# Altium integrated library Freescale Semiconductor Kinetis ARM.IntLib: 48 symbols (part 6 of 6)
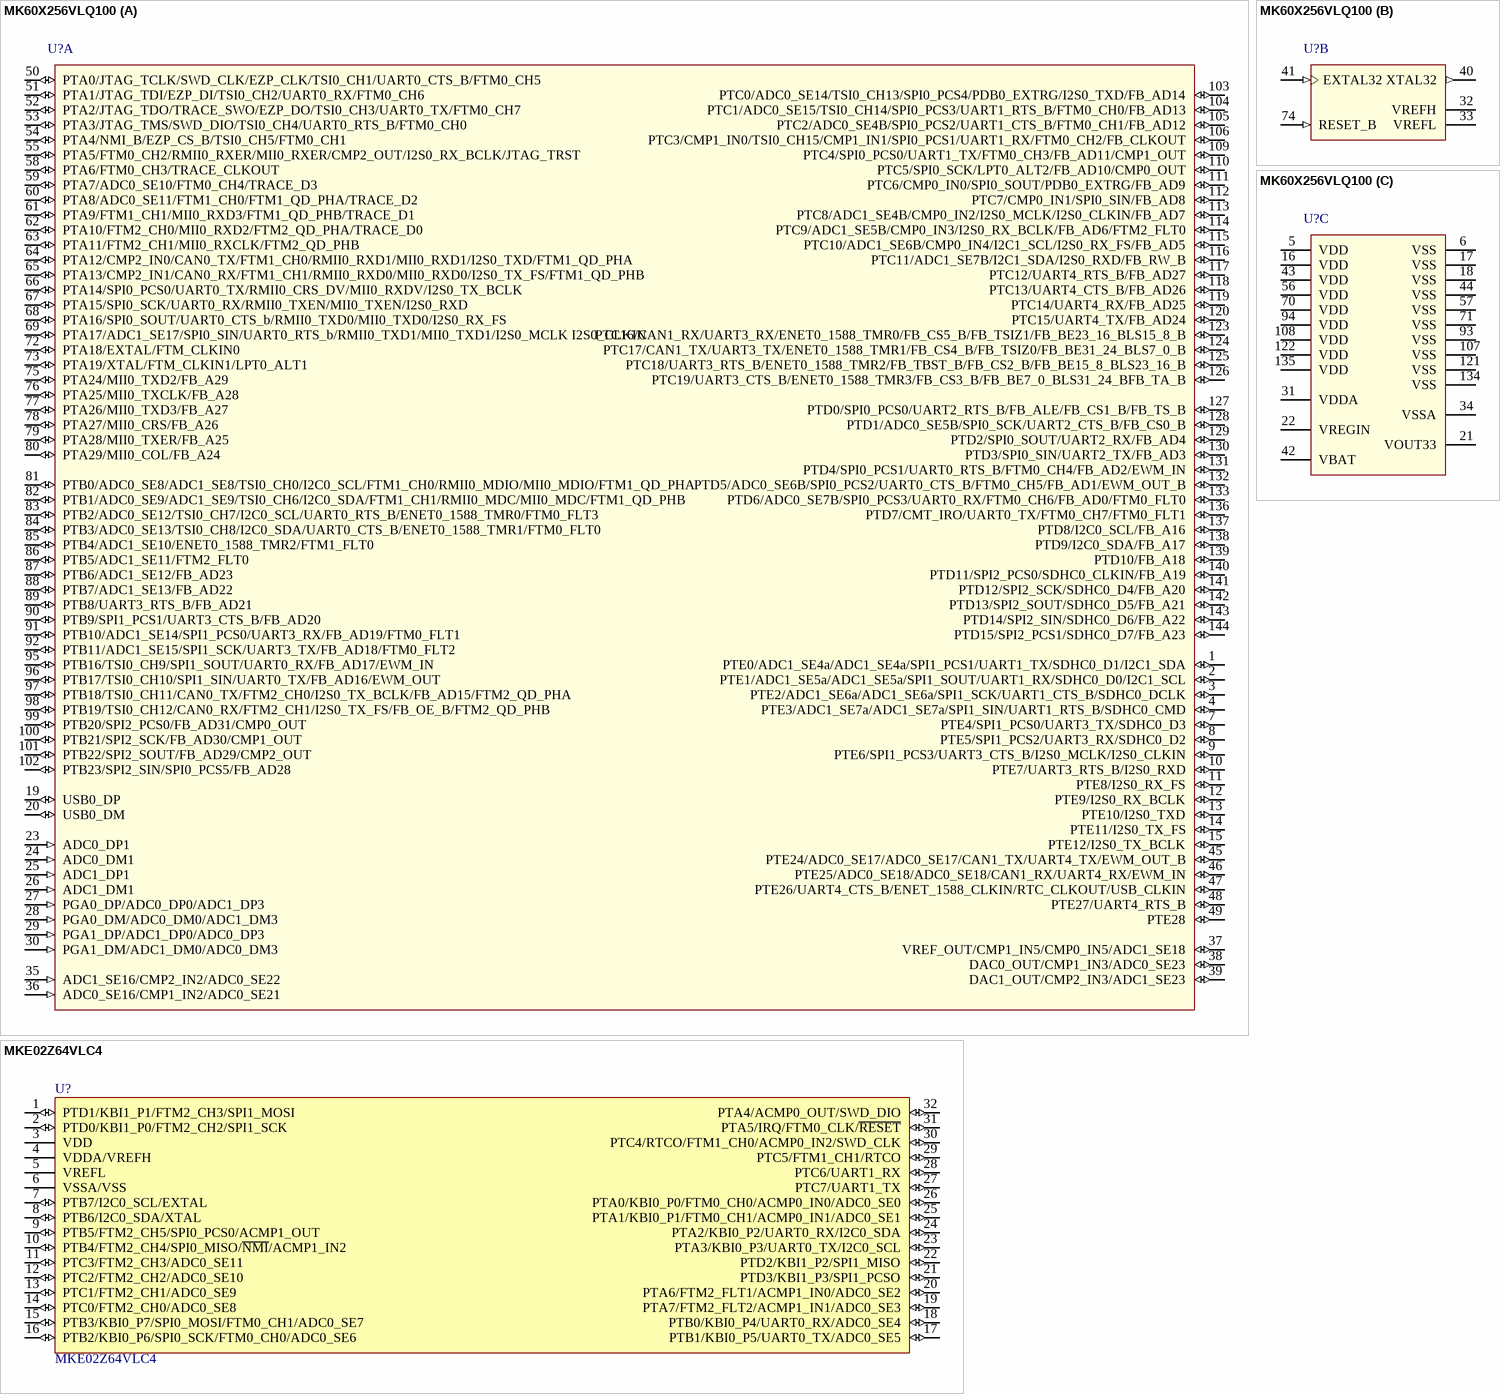
[diagram p40: symbols MK60X256VLQ100 to MKE02Z64VLC4]

## MK60X256VLQ100
designator U?
Kinetis 32-Bit ARM Cortex-M4 Core, K60, 256KB Program Flash Memory, 128KB RAM, 4KB FlexRAM, 144-Pin LQFP; DatasheetVersion: rev4, Mar-2011; PackageVersion: revG, Nov-2009; PackageReference: 918-03; PackageDescription: 144-Pin Thin Quad Flat Pack, 20 x 20 mm Body, 0.5 mm Pitch; ComponentLink1Description: Manufacturer URL; ComponentLink1URL: http://www.freescale.com/
footprint 918-03_N (Thin QFP, 144-Leads, Body 20x20mm, Pitch 0.5mm, IPC Medium Density)
footprint 918-03_L (Thin QFP, 144-Leads, Body 20x20mm, Pitch 0.5mm, IPC High Density)
footprint 918-03_M (Thin QFP, 144-Leads, Body 20x20mm, Pitch 0.5mm, IPC Low Density)
part A pins: 1 PTE0/ADC1_SE4a/ADC1_SE4a/SPI1_PCS1/UART1_TX/SDHC0_D1/I2C1_SDA (io), 2 PTE1/ADC1_SE5a/ADC1_SE5a/SPI1_SOUT/UART1_RX/SDHC0_D0/I2C1_SCL (io), 3 PTE2/ADC1_SE6a/ADC1_SE6a/SPI1_SCK/UART1_CTS_B/SDHC0_DCLK (io), 4 PTE3/ADC1_SE7a/ADC1_SE7a/SPI1_SIN/UART1_RTS_B/SDHC0_CMD (io), 7 PTE4/SPI1_PCS0/UART3_TX/SDHC0_D3 (io), 8 PTE5/SPI1_PCS2/UART3_RX/SDHC0_D2 (io), 9 PTE6/SPI1_PCS3/UART3_CTS_B/I2S0_MCLK/I2S0_CLKIN (io), 10 PTE7/UART3_RTS_B/I2S0_RXD (io), 11 PTE8/I2S0_RX_FS (io), 12 PTE9/I2S0_RX_BCLK (io), 13 PTE10/I2S0_TXD (io), 14 PTE11/I2S0_TX_FS (io), 15 PTE12/I2S0_TX_BCLK (io), 19 USB0_DP (io), 20 USB0_DM (io), 23 ADC0_DP1 (in), 24 ADC0_DM1 (in), 25 ADC1_DP1 (in), 26 ADC1_DM1 (in), 27 PGA0_DP/ADC0_DP0/ADC1_DP3 (in), 28 PGA0_DM/ADC0_DM0/ADC1_DM3 (in), 29 PGA1_DP/ADC1_DP0/ADC0_DP3 (in), 30 PGA1_DM/ADC1_DM0/ADC0_DM3 (in), 35 ADC1_SE16/CMP2_IN2/ADC0_SE22 (in), 36 ADC0_SE16/CMP1_IN2/ADC0_SE21 (in), 37 VREF_OUT/CMP1_IN5/CMP0_IN5/ADC1_SE18 (io), 38 DAC0_OUT/CMP1_IN3/ADC0_SE23 (io), 39 DAC1_OUT/CMP2_IN3/ADC1_SE23 (io), 45 PTE24/ADC0_SE17/ADC0_SE17/CAN1_TX/UART4_TX/EWM_OUT_B (io), 46 PTE25/ADC0_SE18/ADC0_SE18/CAN1_RX/UART4_RX/EWM_IN (io), 47 PTE26/UART4_CTS_B/ENET_1588_CLKIN/RTC_CLKOUT/USB_CLKIN (io), 48 PTE27/UART4_RTS_B (io), 49 PTE28 (io), 50 PTA0/JTAG_TCLK/SWD_CLK/EZP_CLK/TSI0_CH1/UART0_CTS_B/FTM0_CH5 (io), 51 PTA1/JTAG_TDI/EZP_DI/TSI0_CH2/UART0_RX/FTM0_CH6 (io), 52 PTA2/JTAG_TDO/TRACE_SWO/EZP_DO/TSI0_CH3/UART0_TX/FTM0_CH7 (io), 53 PTA3/JTAG_TMS/SWD_DIO/TSI0_CH4/UART0_RTS_B/FTM0_CH0 (io), 54 PTA4/NMI_B/EZP_CS_B/TSI0_CH5/FTM0_CH1 (io), 55 PTA5/FTM0_CH2/RMII0_RXER/MII0_RXER/CMP2_OUT/I2S0_RX_BCLK/JTAG_TRST (io), 58 PTA6/FTM0_CH3/TRACE_CLKOUT (io), 59 PTA7/ADC0_SE10/FTM0_CH4/TRACE_D3 (io), 60 PTA8/ADC0_SE11/FTM1_CH0/FTM1_QD_PHA/TRACE_D2 (io), 61 PTA9/FTM1_CH1/MII0_RXD3/FTM1_QD_PHB/TRACE_D1 (io), 62 PTA10/FTM2_CH0/MII0_RXD2/FTM2_QD_PHA/TRACE_D0 (io), 63 PTA11/FTM2_CH1/MII0_RXCLK/FTM2_QD_PHB (io), 64 PTA12/CMP2_IN0/CAN0_TX/FTM1_CH0/RMII0_RXD1/MII0_RXD1/I2S0_TXD/FTM1_QD_PHA (io), 65 PTA13/CMP2_IN1/CAN0_RX/FTM1_CH1/RMII0_RXD0/MII0_RXD0/I2S0_TX_FS/FTM1_QD_PHB (io), 66 PTA14/SPI0_PCS0/UART0_TX/RMII0_CRS_DV/MII0_RXDV/I2S0_TX_BCLK (io), 67 PTA15/SPI0_SCK/UART0_RX/RMII0_TXEN/MII0_TXEN/I2S0_RXD (io), 68 PTA16/SPI0_SOUT/UART0_CTS_b/RMII0_TXD0/MII0_TXD0/I2S0_RX_FS (io), 69 PTA17/ADC1_SE17/SPI0_SIN/UART0_RTS_b/RMII0_TXD1/MII0_TXD1/I2S0_MCLK I2S0_CLKIN (io), 72 PTA18/EXTAL/FTM_CLKIN0 (io), 73 PTA19/XTAL/FTM_CLKIN1/LPT0_ALT1 (io), 75 PTA24/MII0_TXD2/FB_A29 (io), 76 PTA25/MII0_TXCLK/FB_A28 (io), 77 PTA26/MII0_TXD3/FB_A27 (io), 78 PTA27/MII0_CRS/FB_A26 (io), 79 PTA28/MII0_TXER/FB_A25 (io), 80 PTA29/MII0_COL/FB_A24 (io), 81 PTB0/ADC0_SE8/ADC1_SE8/TSI0_CH0/I2C0_SCL/FTM1_CH0/RMII0_MDIO/MII0_MDIO/FTM1_QD_PHA (io), 82 PTB1/ADC0_SE9/ADC1_SE9/TSI0_CH6/I2C0_SDA/FTM1_CH1/RMII0_MDC/MII0_MDC/FTM1_QD_PHB (io), 83 PTB2/ADC0_SE12/TSI0_CH7/I2C0_SCL/UART0_RTS_B/ENET0_1588_TMR0/FTM0_FLT3 (io), 84 PTB3/ADC0_SE13/TSI0_CH8/I2C0_SDA/UART0_CTS_B/ENET0_1588_TMR1/FTM0_FLT0 (io), 85 PTB4/ADC1_SE10/ENET0_1588_TMR2/FTM1_FLT0 (io), 86 PTB5/ADC1_SE11/FTM2_FLT0 (io), 87 PTB6/ADC1_SE12/FB_AD23 (io), 88 PTB7/ADC1_SE13/FB_AD22 (io), 89 PTB8/UART3_RTS_B/FB_AD21 (io), 90 PTB9/SPI1_PCS1/UART3_CTS_B/FB_AD20 (io), 91 PTB10/ADC1_SE14/SPI1_PCS0/UART3_RX/FB_AD19/FTM0_FLT1 (io), 92 PTB11/ADC1_SE15/SPI1_SCK/UART3_TX/FB_AD18/FTM0_FLT2 (io), 95 PTB16/TSI0_CH9/SPI1_SOUT/UART0_RX/FB_AD17/EWM_IN (io), 96 PTB17/TSI0_CH10/SPI1_SIN/UART0_TX/FB_AD16/EWM_OUT (io), 97 PTB18/TSI0_CH11/CAN0_TX/FTM2_CH0/I2S0_TX_BCLK/FB_AD15/FTM2_QD_PHA (io), 98 PTB19/TSI0_CH12/CAN0_RX/FTM2_CH1/I2S0_TX_FS/FB_OE_B/FTM2_QD_PHB (io), 99 PTB20/SPI2_PCS0/FB_AD31/CMP0_OUT (io), 100 PTB21/SPI2_SCK/FB_AD30/CMP1_OUT (io), 101 PTB22/SPI2_SOUT/FB_AD29/CMP2_OUT (io), 102 PTB23/SPI2_SIN/SPI0_PCS5/FB_AD28 (io), 103 PTC0/ADC0_SE14/TSI0_CH13/SPI0_PCS4/PDB0_EXTRG/I2S0_TXD/FB_AD14 (io), 104 PTC1/ADC0_SE15/TSI0_CH14/SPI0_PCS3/UART1_RTS_B/FTM0_CH0/FB_AD13 (io), 105 PTC2/ADC0_SE4B/SPI0_PCS2/UART1_CTS_B/FTM0_CH1/FB_AD12 (io), 106 PTC3/CMP1_IN0/TSI0_CH15/CMP1_IN1/SPI0_PCS1/UART1_RX/FTM0_CH2/FB_CLKOUT (io), 109 PTC4/SPI0_PCS0/UART1_TX/FTM0_CH3/FB_AD11/CMP1_OUT (io), 110 PTC5/SPI0_SCK/LPT0_ALT2/FB_AD10/CMP0_OUT (io), 111 PTC6/CMP0_IN0/SPI0_SOUT/PDB0_EXTRG/FB_AD9 (io), 112 PTC7/CMP0_IN1/SPI0_SIN/FB_AD8 (io), 113 PTC8/ADC1_SE4B/CMP0_IN2/I2S0_MCLK/I2S0_CLKIN/FB_AD7 (io), 114 PTC9/ADC1_SE5B/CMP0_IN3/I2S0_RX_BCLK/FB_AD6/FTM2_FLT0 (io), 115 PTC10/ADC1_SE6B/CMP0_IN4/I2C1_SCL/I2S0_RX_FS/FB_AD5 (io), 116 PTC11/ADC1_SE7B/I2C1_SDA/I2S0_RXD/FB_RW_B (io), 117 PTC12/UART4_RTS_B/FB_AD27 (io), 118 PTC13/UART4_CTS_B/FB_AD26 (io), 119 PTC14/UART4_RX/FB_AD25 (io), 120 PTC15/UART4_TX/FB_AD24 (io), 123 PTC16/CAN1_RX/UART3_RX/ENET0_1588_TMR0/FB_CS5_B/FB_TSIZ1/FB_BE23_16_BLS15_8_B (io), 124 PTC17/CAN1_TX/UART3_TX/ENET0_1588_TMR1/FB_CS4_B/FB_TSIZ0/FB_BE31_24_BLS7_0_B (io), 125 PTC18/UART3_RTS_B/ENET0_1588_TMR2/FB_TBST_B/FB_CS2_B/FB_BE15_8_BLS23_16_B (io), 126 PTC19/UART3_CTS_B/ENET0_1588_TMR3/FB_CS3_B/FB_BE7_0_BLS31_24_BFB_TA_B (io), 127 PTD0/SPI0_PCS0/UART2_RTS_B/FB_ALE/FB_CS1_B/FB_TS_B (io), 128 PTD1/ADC0_SE5B/SPI0_SCK/UART2_CTS_B/FB_CS0_B (io), 129 PTD2/SPI0_SOUT/UART2_RX/FB_AD4 (io), 130 PTD3/SPI0_SIN/UART2_TX/FB_AD3 (io), 131 PTD4/SPI0_PCS1/UART0_RTS_B/FTM0_CH4/FB_AD2/EWM_IN (io), 132 PTD5/ADC0_SE6B/SPI0_PCS2/UART0_CTS_B/FTM0_CH5/FB_AD1/EWM_OUT_B (io), 133 PTD6/ADC0_SE7B/SPI0_PCS3/UART0_RX/FTM0_CH6/FB_AD0/FTM0_FLT0 (io), 136 PTD7/CMT_IRO/UART0_TX/FTM0_CH7/FTM0_FLT1 (io), 137 PTD8/I2C0_SCL/FB_A16 (io), 138 PTD9/I2C0_SDA/FB_A17 (io), 139 PTD10/FB_A18 (io), 140 PTD11/SPI2_PCS0/SDHC0_CLKIN/FB_A19 (io), 141 PTD12/SPI2_SCK/SDHC0_D4/FB_A20 (io), 142 PTD13/SPI2_SOUT/SDHC0_D5/FB_A21 (io), 143 PTD14/SPI2_SIN/SDHC0_D6/FB_A22 (io), 144 PTD15/SPI2_PCS1/SDHC0_D7/FB_A23 (io)
part B pins: 32 VREFH (power), 33 VREFL (power), 40 XTAL32 (out), 41 EXTAL32 (in), 74 RESET_B (in)
part C pins: 5 VDD (power), 6 VSS (power), 16 VDD (power), 17 VSS (power), 18 VSS (power), 21 VOUT33 (power), 22 VREGIN (power), 31 VDDA (power), 34 VSSA (power), 42 VBAT (power), 43 VDD (power), 44 VSS (power), 56 VDD (power), 57 VSS (power), 70 VDD (power), 71 VSS (power), 93 VSS (power), 94 VDD (power), 107 VSS (power), 108 VDD (power), 121 VSS (power), 122 VDD (power), 134 VSS (power), 135 VDD (power)

## MKE02Z64VLC4
designator U?
IC MCU 32BIT 64KB FLASH 32LQFP; Manufacturer: NXP USA Inc.; Core Processor: ARM® Cortex®-M0+; Core Size: 32-Bit; Speed: 40MHz; Connectivity: I²C, SPI, UART/USART; Peripherals: LVD, PWM, WDT; Number of I/O: 28; Program Memory Size: 64KB (64K x 8); EEPROM Size: 256 x 8; RAM Size: 4K x 8; Voltage - Supply (Vcc/Vdd): 2.7 V ~ 5.5 V; Data Converters: A/D 16x12b, D/A 2x6b; Oscillator Type: Internal; Supplier 1: Digi-Key; Manufacturer Part Number: MKE02Z64VLC4; RoHS: RoHS Compliant; Category: Integrated Circuits (ICs); Stock 1: 9886; Pricing 1: 1=2.92, 10=2.624, 100=2.1087, 500=1.7325, 1000=1.70956 (USD); Packaging: Tray; Part Status: Active; Program Memory Type: FLASH; Operating Temperature: -40°C ~ 105°C (TA); Package / Case: 32-LQFP; Supplier Device Package: 32-LQFP (7x7); ComponentLink1URL: http://cache.freescale.com/files/microcontrollers/doc/data_sheet/MKE02P64M40SF0.pdf; ComponentLink1Description: http://cache.freescale.com/files/microcontrollers/doc/data_sheet/MKE02P64M40SF0.pdf; Value: MKE02Z64VLC4; Supplier Part Number 1: MKE02Z64VLC4-ND
footprint LQFP-32_7X7X1.4
pins: 1 PTD1/KBI1_P1/FTM2_CH3/SPI1_MOSI (io), 2 PTD0/KBI1_P0/FTM2_CH2/SPI1_SCK (io), 3 VDD (power), 4 VDDA/VREFH (power), 5 VREFL (power), 6 VSSA/VSS (power), 7 PTB7/I2C0_SCL/EXTAL (io), 8 PTB6/I2C0_SDA/XTAL (io), 9 PTB5/FTM2_CH5/SPI0_PCS0/ACMP1_OUT (io), 10 PTB4/FTM2_CH4/SPI0_MISO/~{NMI}/ACMP1_IN2 (io), 11 PTC3/FTM2_CH3/ADC0_SE11 (io), 12 PTC2/FTM2_CH2/ADC0_SE10 (io), 13 PTC1/FTM2_CH1/ADC0_SE9 (io), 14 PTC0/FTM2_CH0/ADC0_SE8 (io), 15 PTB3/KBI0_P7/SPI0_MOSI/FTM0_CH1/ADC0_SE7 (io), 16 PTB2/KBI0_P6/SPI0_SCK/FTM0_CH0/ADC0_SE6 (io), 17 PTB1/KBI0_P5/UART0_TX/ADC0_SE5 (io), 18 PTB0/KBI0_P4/UART0_RX/ADC0_SE4 (io), 19 PTA7/FTM2_FLT2/ACMP1_IN1/ADC0_SE3 (io), 20 PTA6/FTM2_FLT1/ACMP1_IN0/ADC0_SE2 (io), 21 PTD3/KBI1_P3/SPI1_PCSO (io), 22 PTD2/KBI1_P2/SPI1_MISO (io), 23 PTA3/KBI0_P3/UART0_TX/I2C0_SCL (io), 24 PTA2/KBI0_P2/UART0_RX/I2C0_SDA (io), 25 PTA1/KBI0_P1/FTM0_CH1/ACMP0_IN1/ADC0_SE1 (io), 26 PTA0/KBI0_P0/FTM0_CH0/ACMP0_IN0/ADC0_SE0 (io), 27 PTC7/UART1_TX (io), 28 PTC6/UART1_RX (io), 29 PTC5/FTM1_CH1/RTCO (io), 30 PTC4/RTCO/FTM1_CH0/ACMP0_IN2/SWD_CLK (io), 31 PTA5/IRQ/FTM0_CLK/~{RESET} (io), 32 PTA4/ACMP0_OUT/SWD_DIO (io)

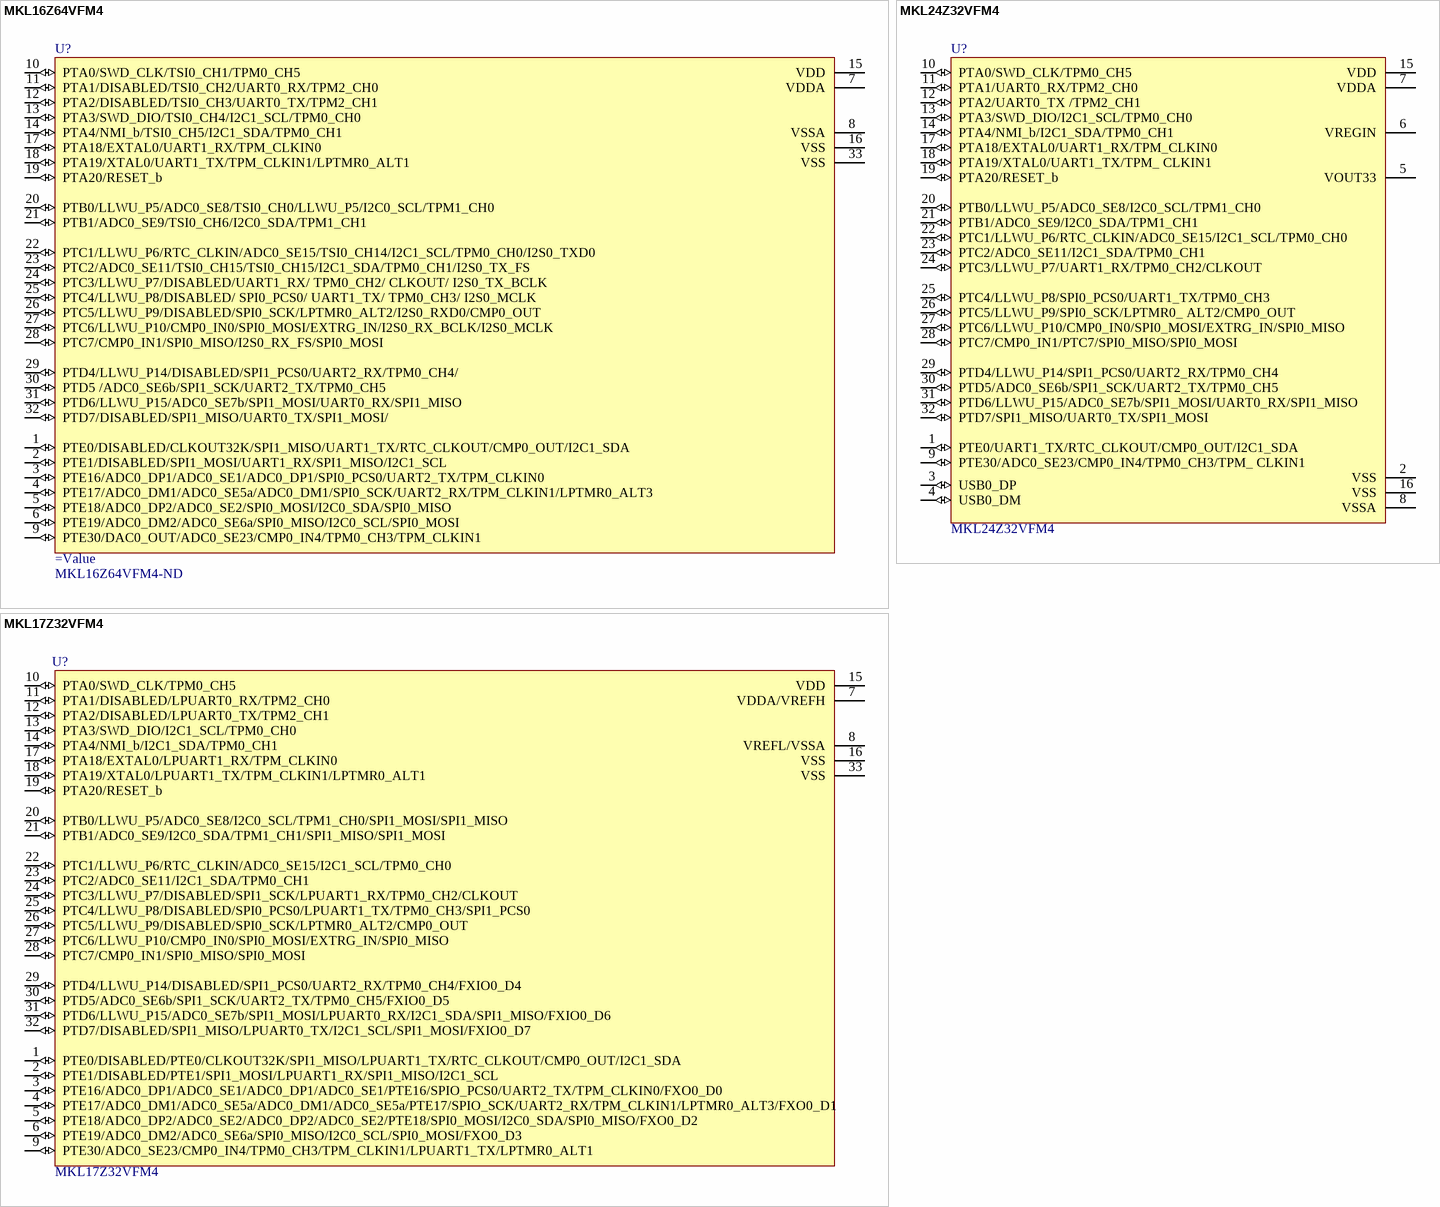
[diagram p34: symbols MKL16Z64VFM4 to MKL24Z32VFM4]

## MKL16Z64VFM4
designator U?  Supplier Part Number 1: MKL16Z64VFM4-ND
ARM Microcontrollers - MCU CORTEX M0+ 64K FLASH; Manufacturer: NXP Freescale; Manufacturer Part Number: MKL16Z64VFM4; Interface: I2C; RAM Size: 8KB; Number of ADC Channels: 1; Number of I/Os: 28; Frequency: 48MHz; Oscillator Type: Internal; Data Bus Width: 32b; Number of Timers/Counters: 5; Number of SPI Channels: 2; Number of PWM Channels: 10; Min Supply Voltage: 1.71V; Max Supply Voltage: 3.6V; Watchdog Timer: Yes; Memory Size: 64KB; Peripherals: Brown-out Detect/Reset; Supplier 1: Digi-Key; Stock 1: 4048; Pricing 1: 1 = 3,34000, 10 = 2,99900, 25 = 2,83520, 490 = 2,33100, 980 = 2,09160, 1470 = 1,76400 (USD); RoHS: Yes; Mount: Surface Mount; Case/Package: QFN; Number of Pins: 32; Weight: 0.002198oz; Min Operating Temperature: -40°C; Max Operating Temperature: 105°C; Packaging: Tray; Package Quantity: 490; Number of Programmable I/O: 28; Max Frequency: 48MHz; Number of I2C Channels: 2; Memory Type: FLASH; Number of UART Channels: 2; Core Architecture: ARM; Length: 4mm; Height: 0.95mm; Width: 4mm; REACH SVHC: No SVHC; Halogen Free: Halogen Free; ComponentLink1URL: https://datasheet.ciiva.com/18626/lserieskl1xfs-18626924.pdf?src-supplier=Digi-Key; ComponentLink1Description: https://datasheet.ciiva.com/18626/lserieskl1xfs-18626924.pdf?src-supplier=Digi-Key
footprint QFN32 (QFN, 32-Leads, Body 5,00x5,00mm, Pitch 0,50mm, Thermal Pad 3,60x3,60mm, IPC Medium Density)
footprint QFN32 - UPDATE (QFN, 32-Leads, Body 5,00x5,00mm, Pitch 0,50mm, Thermal Pad 3,60x3,60mm, IPC Medium Density)
pins: 1 PTE0/DISABLED/CLKOUT32K/SPI1_MISO/UART1_TX/RTC_CLKOUT/CMP0_OUT/I2C1_SDA (io), 2 PTE1/DISABLED/SPI1_MOSI/UART1_RX/SPI1_MISO/I2C1_SCL (io), 3 PTE16/ADC0_DP1/ADC0_SE1/ADC0_DP1/SPI0_PCS0/UART2_TX/TPM_CLKIN0 (io), 4 PTE17/ADC0_DM1/ADC0_SE5a/ADC0_DM1/SPI0_SCK/UART2_RX/TPM_CLKIN1/LPTMR0_ALT3 (io), 5 PTE18/ADC0_DP2/ADC0_SE2/SPI0_MOSI/I2C0_SDA/SPI0_MISO (io), 6 PTE19/ADC0_DM2/ADC0_SE6a/SPI0_MISO/I2C0_SCL/SPI0_MOSI (io), 7 VDDA, 8 VSSA, 9 PTE30/DAC0_OUT/ADC0_SE23/CMP0_IN4/TPM0_CH3/TPM_CLKIN1 (io), 10 PTA0/SWD_CLK/TSI0_CH1/TPM0_CH5 (io), 11 PTA1/DISABLED/TSI0_CH2/UART0_RX/TPM2_CH0 (io), 12 PTA2/DISABLED/TSI0_CH3/UART0_TX/TPM2_CH1 (io), 13 PTA3/SWD_DIO/TSI0_CH4/I2C1_SCL/TPM0_CH0 (io), 14 PTA4/NMI_b/TSI0_CH5/I2C1_SDA/TPM0_CH1 (io), 15 VDD, 16 VSS, 17 PTA18/EXTAL0/UART1_RX/TPM_CLKIN0 (io), 18 PTA19/XTAL0/UART1_TX/TPM_CLKIN1/LPTMR0_ALT1 (io), 19 PTA20/RESET_b (io), 20 PTB0/LLWU_P5/ADC0_SE8/TSI0_CH0/LLWU_P5/I2C0_SCL/TPM1_CH0 (io), 21 PTB1/ADC0_SE9/TSI0_CH6/I2C0_SDA/TPM1_CH1 (io), 22 PTC1/LLWU_P6/RTC_CLKIN/ADC0_SE15/TSI0_CH14/I2C1_SCL/TPM0_CH0/I2S0_TXD0 (io), 23 PTC2/ADC0_SE11/TSI0_CH15/TSI0_CH15/I2C1_SDA/TPM0_CH1/I2S0_TX_FS (io), 24 PTC3/LLWU_P7/DISABLED/UART1_RX/ TPM0_CH2/ CLKOUT/ I2S0_TX_BCLK (io), 25 PTC4/LLWU_P8/DISABLED/ SPI0_PCS0/ UART1_TX/ TPM0_CH3/ I2S0_MCLK (io), 26 PTC5/LLWU_P9/DISABLED/SPI0_SCK/LPTMR0_ALT2/I2S0_RXD0/CMP0_OUT (io), 27 PTC6/LLWU_P10/CMP0_IN0/SPI0_MOSI/EXTRG_IN/I2S0_RX_BCLK/I2S0_MCLK (io), 28 PTC7/CMP0_IN1/SPI0_MISO/I2S0_RX_FS/SPI0_MOSI (io), 29 PTD4/LLWU_P14/DISABLED/SPI1_PCS0/UART2_RX/TPM0_CH4/ (io), 30 PTD5 /ADC0_SE6b/SPI1_SCK/UART2_TX/TPM0_CH5 (io), 31 PTD6/LLWU_P15/ADC0_SE7b/SPI1_MOSI/UART0_RX/SPI1_MISO (io), 32 PTD7/DISABLED/SPI1_MISO/UART0_TX/SPI1_MOSI/    (io), 33 VSS

## MKL17Z32VFM4
designator U?
IC MCU 32BIT 32KB FLASH 32QFN; Manufacturer: NXP USA Inc.; Core Processor: ARM® Cortex®-M0+; Core Size: 32-Bit; Speed: 48MHz; Connectivity: I²C, FlexIO, SPI, UART/USART; Peripherals: DMA, I²S, PWM, WDT; Number of I/O: 28; Program Memory Size: 32KB (32K x 8); RAM Size: 8K x 8; Voltage - Supply (Vcc/Vdd): 1.71 V ~ 3.6 V; Data Converters: A/D 11x16b; Oscillator Type: Internal; Supplier 1: Digi-Key; Manufacturer Part Number: MKL17Z32VFM4; RoHS: RoHS Compliant; Category: Integrated Circuits (ICs); Stock 1: 2180; Pricing 1: 1=2.92, 10=2.624, 100=2.1087, 500=1.7325, 1000=1.70956 (USD); Packaging: Tray; Part Status: Active; Program Memory Type: FLASH; EEPROM Size: -; Operating Temperature: -40°C ~ 105°C (TA); Package / Case: 32-UFQFN Exposed Pad; Supplier Device Package: 32-QFN (5x5); ComponentLink1URL: http://cache.freescale.com/files/32bit/doc/data_sheet/KL17P64M48SF2.pdf; ComponentLink1Description: http://cache.freescale.com/files/32bit/doc/data_sheet/KL17P64M48SF2.pdf; Supplier Part Number 1: MKL17Z32VFM4-ND; Value: MKL17Z32VFM4
footprint QFN32 (QFN, 32-Leads, Body 5,00x5,00mm, Pitch 0,50mm, Thermal Pad 3,60x3,60mm, IPC Medium Density)
footprint QFN32 - UPDATE (QFN, 32-Leads, Body 5,00x5,00mm, Pitch 0,50mm, Thermal Pad 3,60x3,60mm, IPC Medium Density)
pins: 1 PTE0/DISABLED/PTE0/CLKOUT32K/SPI1_MISO/LPUART1_TX/RTC_CLKOUT/CMP0_OUT/I2C1_SDA (io), 2 PTE1/DISABLED/PTE1/SPI1_MOSI/LPUART1_RX/SPI1_MISO/I2C1_SCL (io), 3 PTE16/ADC0_DP1/ADC0_SE1/ADC0_DP1/ADC0_SE1/PTE16/SPIO_PCS0/UART2_TX/TPM_CLKIN0/FXO0_D0 (io), 4 PTE17/ADC0_DM1/ADC0_SE5a/ADC0_DM1/ADC0_SE5a/PTE17/SPIO_SCK/UART2_RX/TPM_CLKIN1/LPTMR0_ALT3/FXO0_D1 (io), 5 PTE18/ADC0_DP2/ADC0_SE2/ADC0_DP2/ADC0_SE2/PTE18/SPI0_MOSI/I2C0_SDA/SPI0_MISO/FXO0_D2 (io), 6 PTE19/ADC0_DM2/ADC0_SE6a/SPI0_MISO/I2C0_SCL/SPI0_MOSI/FXO0_D3 (io), 7 VDDA/VREFH, 8 VREFL/VSSA, 9 PTE30/ADC0_SE23/CMP0_IN4/TPM0_CH3/TPM_CLKIN1/LPUART1_TX/LPTMR0_ALT1 (io), 10 PTA0/SWD_CLK/TPM0_CH5 (io), 11 PTA1/DISABLED/LPUART0_RX/TPM2_CH0 (io), 12 PTA2/DISABLED/LPUART0_TX/TPM2_CH1 (io), 13 PTA3/SWD_DIO/I2C1_SCL/TPM0_CH0 (io), 14 PTA4/NMI_b/I2C1_SDA/TPM0_CH1 (io), 15 VDD, 16 VSS, 17 PTA18/EXTAL0/LPUART1_RX/TPM_CLKIN0 (io), 18 PTA19/XTAL0/LPUART1_TX/TPM_CLKIN1/LPTMR0_ALT1 (io), 19 PTA20/RESET_b (io), 20 PTB0/LLWU_P5/ADC0_SE8/I2C0_SCL/TPM1_CH0/SPI1_MOSI/SPI1_MISO (io), 21 PTB1/ADC0_SE9/I2C0_SDA/TPM1_CH1/SPI1_MISO/SPI1_MOSI (io), 22 PTC1/LLWU_P6/RTC_CLKIN/ADC0_SE15/I2C1_SCL/TPM0_CH0 (io), 23 PTC2/ADC0_SE11/I2C1_SDA/TPM0_CH1 (io), 24 PTC3/LLWU_P7/DISABLED/SPI1_SCK/LPUART1_RX/TPM0_CH2/CLKOUT (io), 25 PTC4/LLWU_P8/DISABLED/SPI0_PCS0/LPUART1_TX/TPM0_CH3/SPI1_PCS0 (io), 26 PTC5/LLWU_P9/DISABLED/SPI0_SCK/LPTMR0_ALT2/CMP0_OUT (io), 27 PTC6/LLWU_P10/CMP0_IN0/SPI0_MOSI/EXTRG_IN/SPI0_MISO (io), 28 PTC7/CMP0_IN1/SPI0_MISO/SPI0_MOSI (io), 29 PTD4/LLWU_P14/DISABLED/SPI1_PCS0/UART2_RX/TPM0_CH4/FXIO0_D4 (io), 30 PTD5/ADC0_SE6b/SPI1_SCK/UART2_TX/TPM0_CH5/FXIO0_D5 (io), 31 PTD6/LLWU_P15/ADC0_SE7b/SPI1_MOSI/LPUART0_RX/I2C1_SDA/SPI1_MISO/FXIO0_D6 (io), 32 PTD7/DISABLED/SPI1_MISO/LPUART0_TX/I2C1_SCL/SPI1_MOSI/FXIO0_D7 (io), 33 VSS

## MKL24Z32VFM4
designator U?
ARM Microcontrollers - MCU ARM 32B 32KFLASH, 32; Manufacturer: NXP Freescale; RAM Size: 4KB; Interface: I2C,SPI,USB,UART,USART,LIN; Number of I/Os: 23; Frequency: 48MHz; Max Supply Voltage: 3.6V; Min Supply Voltage: 1.71V; Number of Timers/Counters: 5; Oscillator Type: Internal; Memory Type: FLASH; Memory Size: 32KB; Peripherals: Brown-out Detect/Reset,POR,PWM,WDT,DMA,LVD,I2C; Supplier 1: Digi-Key; Manufacturer Part Number: MKL24Z32VFM4; Stock 1: 353; Pricing 1: 1=5,43000, 10=4,87400, 25=4,60800, 490=3,78880, 980=3,39968, 1470=2,86720 (USD); RoHS: Yes; Mount: Surface Mount; Case/Package: QFN; Number of Pins: 32; Weight: 0.002198oz; Min Operating Temperature: -40°C; Max Operating Temperature: 105°C; Packaging: Tray; Package Quantity: 490; Data Bus Width: 32b; Number of Programmable I/O: 23; Max Frequency: 48MHz; Core Architecture: ARM; REACH SVHC: No SVHC; Lead Free: Lead Free; Halogen Free: Halogen Free; ComponentLink1URL: https://datasheet.ciiva.com/16366/kl24p80m48sf0-16366202.pdf?src-supplier=Future+Electronics; ComponentLink1Description: https://datasheet.ciiva.com/16366/kl24p80m48sf0-16366202.pdf?src-supplier=Future+Electronics; ComponentLink2URL: https://datasheet.ciiva.com/24017/kl24p80m48sf0-245329-24017735.pdf?src-supplier=Mouser; ComponentLink2Description: https://datasheet.ciiva.com/24017/kl24p80m48sf0-245329-24017735.pdf?src-supplier=Mouser; ComponentLink3URL: https://datasheet.ciiva.com/46450/1850351-46450474.pdf?src-supplier=Element14; ComponentLink3Description: https://datasheet.ciiva.com/46450/1850351-46450474.pdf?src-supplier=Element14; ComponentLink4URL: https://datasheet.ciiva.com/6645/lserieskl2fs-6645214.pdf?src-supplier=Digi-Key; ComponentLink4Description: https://datasheet.ciiva.com/6645/lserieskl2fs-6645214.pdf?src-supplier=Digi-Key; Supplier Part Number 1: MKL24Z32VFM4-ND; Value: MKL24Z32VFM4
footprint QFN32 - UPDATE (QFN, 32-Leads, Body 5,00x5,00mm, Pitch 0,50mm, Thermal Pad 3,60x3,60mm, IPC Medium Density)
pins: 1 PTE0/UART1_TX/RTC_CLKOUT/CMP0_OUT/I2C1_SDA (io), 2 VSS, 3 USB0_DP (io), 4 USB0_DM (io), 5 VOUT33, 6 VREGIN, 7 VDDA, 8 VSSA, 9 PTE30/ADC0_SE23/CMP0_IN4/TPM0_CH3/TPM_ CLKIN1 (io), 10 PTA0/SWD_CLK/TPM0_CH5 (io), 11 PTA1/UART0_RX/TPM2_CH0 (io), 12 PTA2/UART0_TX /TPM2_CH1 (io), 13 PTA3/SWD_DIO/I2C1_SCL/TPM0_CH0 (io), 14 PTA4/NMI_b/I2C1_SDA/TPM0_CH1 (io), 15 VDD, 16 VSS, 17 PTA18/EXTAL0/UART1_RX/TPM_CLKIN0 (io), 18 PTA19/XTAL0/UART1_TX/TPM_ CLKIN1 (io), 19 PTA20/RESET_b (io), 20 PTB0/LLWU_P5/ADC0_SE8/I2C0_SCL/TPM1_CH0 (io), 21 PTB1/ADC0_SE9/I2C0_SDA/TPM1_CH1 (io), 22 PTC1/LLWU_P6/RTC_CLKIN/ADC0_SE15/I2C1_SCL/TPM0_CH0 (io), 23 PTC2/ADC0_SE11/I2C1_SDA/TPM0_CH1 (io), 24 PTC3/LLWU_P7/UART1_RX/TPM0_CH2/CLKOUT (io), 25 PTC4/LLWU_P8/SPI0_PCS0/UART1_TX/TPM0_CH3 (io), 26 PTC5/LLWU_P9/SPI0_SCK/LPTMR0_ ALT2/CMP0_OUT (io), 27 PTC6/LLWU_P10/CMP0_IN0/SPI0_MOSI/EXTRG_IN/SPI0_MISO (io), 28 PTC7/CMP0_IN1/PTC7/SPI0_MISO/SPI0_MOSI (io), 29 PTD4/LLWU_P14/SPI1_PCS0/UART2_RX/TPM0_CH4 (io), 30 PTD5/ADC0_SE6b/SPI1_SCK/UART2_TX/TPM0_CH5 (io), 31 PTD6/LLWU_P15/ADC0_SE7b/SPI1_MOSI/UART0_RX/SPI1_MISO (io), 32 PTD7/SPI1_MISO/UART0_TX/SPI1_MOSI (io)

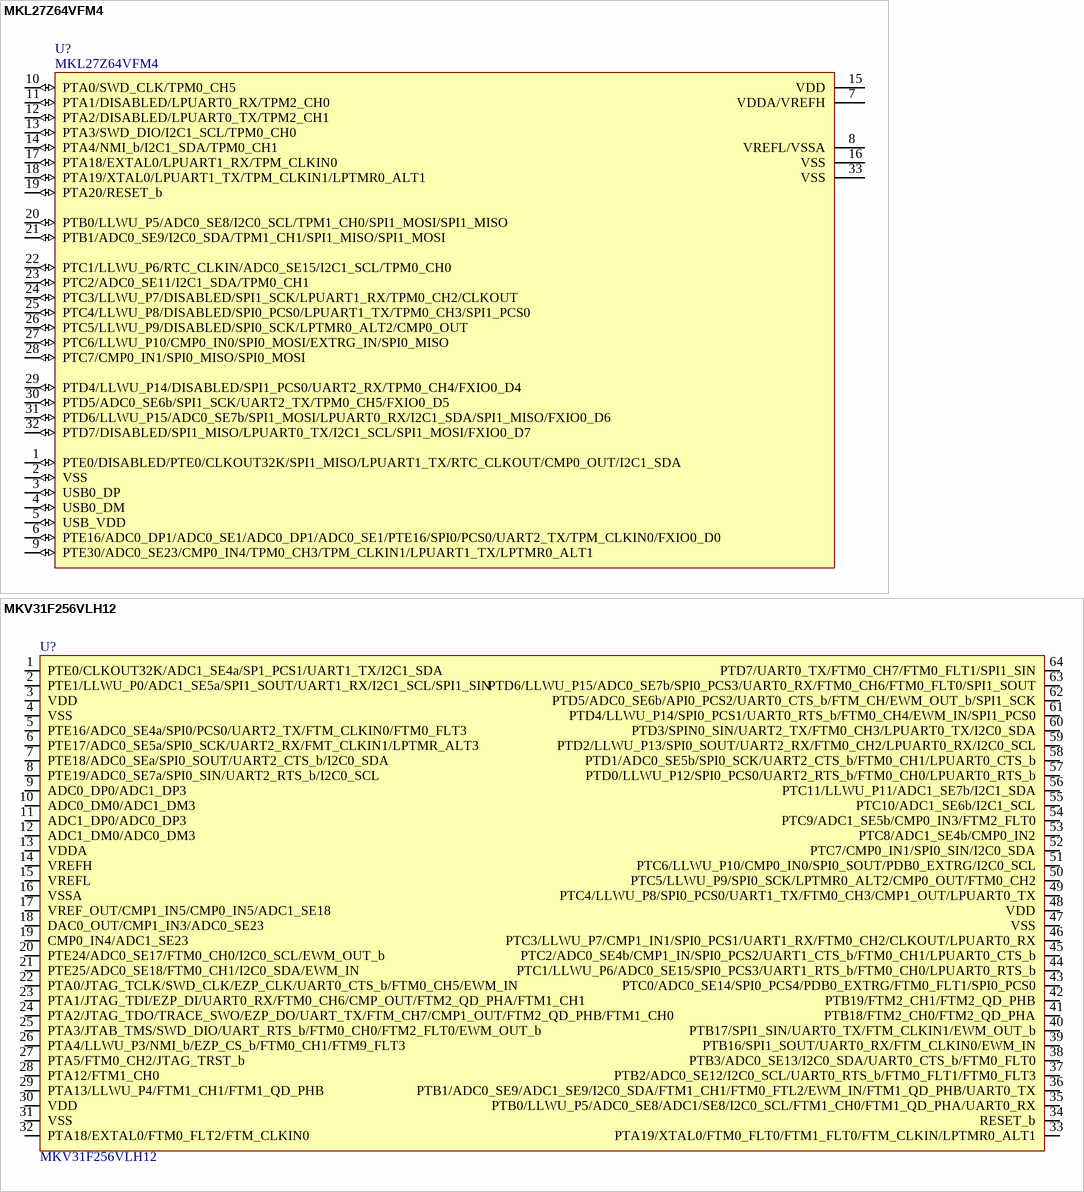
[diagram p35: symbols MKL27Z64VFM4 to MKV31F256VLH12]

## MKL27Z64VFM4
designator U?
IC MCU 32BIT 64KB FLASH 32QFN; Manufacturer: NXP Freescale; Frequency: 48MHz; Interface: I2C,SPI,UART,USART,USB; Number of I/Os: 24; Oscillator Type: Internal; Peripherals: DMA,PWM,WDT; Core Architecture: ARM; Supplier 1: Digi-Key; Manufacturer Part Number: MKL27Z64VFM4; Stock 1: 1742; Pricing 1: 1 = 3,98000, 10 = 3,57000, 25 = 3,37520, 490 = 2,77500, 980 = 2,49000, 1470 = 2,10000 (USD); RoHS: Yes; Case/Package: QFN; Min Operating Temperature: -40°C; Max Operating Temperature: 105°C; Packaging: Tray; Memory Type: FLASH; Memory Size: 64KB; Supplier Part Number 1: MKL27Z64VFM4-ND; Value: MKL27Z64VFM4
footprint QFN32 (QFN, 32-Leads, Body 5,00x5,00mm, Pitch 0,50mm, Thermal Pad 3,60x3,60mm, IPC Medium Density)
pins: 1 PTE0/DISABLED/PTE0/CLKOUT32K/SPI1_MISO/LPUART1_TX/RTC_CLKOUT/CMP0_OUT/I2C1_SDA (io), 2 VSS (io), 3 USB0_DP (io), 4 USB0_DM (io), 5 USB_VDD (io), 6 PTE16/ADC0_DP1/ADC0_SE1/ADC0_DP1/ADC0_SE1/PTE16/SPI0/PCS0/UART2_TX/TPM_CLKIN0/FXIO0_D0 (io), 7 VDDA/VREFH, 8 VREFL/VSSA, 9 PTE30/ADC0_SE23/CMP0_IN4/TPM0_CH3/TPM_CLKIN1/LPUART1_TX/LPTMR0_ALT1 (io), 10 PTA0/SWD_CLK/TPM0_CH5 (io), 11 PTA1/DISABLED/LPUART0_RX/TPM2_CH0 (io), 12 PTA2/DISABLED/LPUART0_TX/TPM2_CH1 (io), 13 PTA3/SWD_DIO/I2C1_SCL/TPM0_CH0 (io), 14 PTA4/NMI_b/I2C1_SDA/TPM0_CH1 (io), 15 VDD, 16 VSS, 17 PTA18/EXTAL0/LPUART1_RX/TPM_CLKIN0 (io), 18 PTA19/XTAL0/LPUART1_TX/TPM_CLKIN1/LPTMR0_ALT1 (io), 19 PTA20/RESET_b (io), 20 PTB0/LLWU_P5/ADC0_SE8/I2C0_SCL/TPM1_CH0/SPI1_MOSI/SPI1_MISO (io), 21 PTB1/ADC0_SE9/I2C0_SDA/TPM1_CH1/SPI1_MISO/SPI1_MOSI (io), 22 PTC1/LLWU_P6/RTC_CLKIN/ADC0_SE15/I2C1_SCL/TPM0_CH0 (io), 23 PTC2/ADC0_SE11/I2C1_SDA/TPM0_CH1 (io), 24 PTC3/LLWU_P7/DISABLED/SPI1_SCK/LPUART1_RX/TPM0_CH2/CLKOUT (io), 25 PTC4/LLWU_P8/DISABLED/SPI0_PCS0/LPUART1_TX/TPM0_CH3/SPI1_PCS0 (io), 26 PTC5/LLWU_P9/DISABLED/SPI0_SCK/LPTMR0_ALT2/CMP0_OUT (io), 27 PTC6/LLWU_P10/CMP0_IN0/SPI0_MOSI/EXTRG_IN/SPI0_MISO (io), 28 PTC7/CMP0_IN1/SPI0_MISO/SPI0_MOSI (io), 29 PTD4/LLWU_P14/DISABLED/SPI1_PCS0/UART2_RX/TPM0_CH4/FXIO0_D4 (io), 30 PTD5/ADC0_SE6b/SPI1_SCK/UART2_TX/TPM0_CH5/FXIO0_D5 (io), 31 PTD6/LLWU_P15/ADC0_SE7b/SPI1_MOSI/LPUART0_RX/I2C1_SDA/SPI1_MISO/FXIO0_D6 (io), 32 PTD7/DISABLED/SPI1_MISO/LPUART0_TX/I2C1_SCL/SPI1_MOSI/FXIO0_D7 (io), 33 VSS

## MKV31F256VLH12
designator U?
IC MCU 32BIT 256KB FLASH 64LQFP; Manufacturer: Freescale Semiconductor - NXP; Core Processor: ARM® Cortex®-M4; Core Size: 32-Bit; Speed: 120MHz; Connectivity: I²C, SPI, UART/USART; Peripherals: DMA, PWM, WDT; Number of I/O: 46; Program Memory Size: 256KB (256K x 8); RAM Size: 48K x 8; Voltage - Supply (Vcc/Vdd): 1.71 V ~ 3.6 V; Data Converters: A/D 24x16b, D/A 1x12b; Oscillator Type: Internal; Populated: Yes; Supplier 1: Digi-Key; Supplier Part Number 1: MKV31F256VLH12-ND; Manufacturer Part Number: MKV31F256VLH12; RoHS: RoHS Compliant; Category: Integrated Circuits (ICs); Stock 1: 0; Pricing 1: 1=4.37, 10=4.131, 25=3.888, 100=2.916 (USD); Packaging: Tray; Program Memory Type: FLASH; EEPROM Size: -; Operating Temperature: -40°C ~ 105°C (TA); Package / Case: 64-LQFP; Supplier Device Package: 64-LQFP (10x10); ComponentLink1URL: http://cache.freescale.com/files/microcontrollers/doc/data_sheet/KV31P100M120SF8.pdf; ComponentLink1Description: http://cache.freescale.com/files/microcontrollers/doc/data_sheet/KV31P100M120SF8.pdf; Value: MKV31F256VLH12
footprint LQFP-64_10X10X00
footprint LQFP-64_10X10X01
footprint LQFP-64_10X10X1.
pins: 1 PTE0/CLKOUT32K/ADC1_SE4a/SP1_PCS1/UART1_TX/I2C1_SDA (io), 2 PTE1/LLWU_P0/ADC1_SE5a/SPI1_SOUT/UART1_RX/I2C1_SCL/SPI1_SIN (io), 3 VDD (power), 4 VSS (power), 5 PTE16/ADC0_SE4a/SPI0/PCS0/UART2_TX/FTM_CLKIN0/FTM0_FLT3 (io), 6 PTE17/ADC0_SE5a/SPI0_SCK/UART2_RX/FMT_CLKIN1/LPTMR_ALT3 (io), 7 PTE18/ADC0_SEa/SPI0_SOUT/UART2_CTS_b/I2C0_SDA (io), 8 PTE19/ADC0_SE7a/SPI0_SIN/UART2_RTS_b/I2C0_SCL (io), 9 ADC0_DP0/ADC1_DP3 (io), 10 ADC0_DM0/ADC1_DM3 (io), 11 ADC1_DP0/ADC0_DP3 (io), 12 ADC1_DM0/ADC0_DM3 (io), 13 VDDA (power), 14 VREFH (power), 15 VREFL (power), 16 VSSA (power), 17 VREF_OUT/CMP1_IN5/CMP0_IN5/ADC1_SE18 (io), 18 DAC0_OUT/CMP1_IN3/ADC0_SE23 (io), 19 CMP0_IN4/ADC1_SE23 (io), 20 PTE24/ADC0_SE17/FTM0_CH0/I2C0_SCL/EWM_OUT_b (io), 21 PTE25/ADC0_SE18/FTM0_CH1/I2C0_SDA/EWM_IN (io), 22 PTA0/JTAG_TCLK/SWD_CLK/EZP_CLK/UART0_CTS_b/FTM0_CH5/EWM_IN (io), 23 PTA1/JTAG_TDI/EZP_DI/UART0_RX/FTM0_CH6/CMP_OUT/FTM2_QD_PHA/FTM1_CH1 (io), 24 PTA2/JTAG_TDO/TRACE_SWO/EZP_DO/UART_TX/FTM_CH7/CMP1_OUT/FTM2_QD_PHB/FTM1_CH0 (io), 25 PTA3/JTAB_TMS/SWD_DIO/UART_RTS_b/FTM0_CH0/FTM2_FLT0/EWM_OUT_b (io), 26 PTA4/LLWU_P3/NMI_b/EZP_CS_b/FTM0_CH1/FTM9_FLT3 (io), 27 PTA5/FTM0_CH2/JTAG_TRST_b (io), 28 PTA12/FTM1_CH0 (io), 29 PTA13/LLWU_P4/FTM1_CH1/FTM1_QD_PHB (io), 30 VDD (power), 31 VSS (power), 32 PTA18/EXTAL0/FTM0_FLT2/FTM_CLKIN0 (io), 33 PTA19/XTAL0/FTM0_FLT0/FTM1_FLT0/FTM_CLKIN/LPTMR0_ALT1 (io), 34 RESET_b, 35 PTB0/LLWU_P5/ADC0_SE8/ADC1/SE8/I2C0_SCL/FTM1_CH0/FTM1_QD_PHA/UART0_RX (io), 36 PTB1/ADC0_SE9/ADC1_SE9/I2C0_SDA/FTM1_CH1/FTM0_FTL2/EWM_IN/FTM1_QD_PHB/UART0_TX (io), 37 PTB2/ADC0_SE12/I2C0_SCL/UART0_RTS_b/FTM0_FLT1/FTM0_FLT3 (io), 38 PTB3/ADC0_SE13/I2C0_SDA/UART0_CTS_b/FTM0_FLT0 (io), 39 PTB16/SPI1_SOUT/UART0_RX/FTM_CLKIN0/EWM_IN (io), 40 PTB17/SPI1_SIN/UART0_TX/FTM_CLKIN1/EWM_OUT_b (io), 41 PTB18/FTM2_CH0/FTM2_QD_PHA (io), 42 PTB19/FTM2_CH1/FTM2_QD_PHB (io), 43 PTC0/ADC0_SE14/SPI0_PCS4/PDB0_EXTRG/FTM0_FLT1/SPI0_PCS0 (io), 44 PTC1/LLWU_P6/ADC0_SE15/SPI0_PCS3/UART1_RTS_b/FTM0_CH0/LPUART0_RTS_b (io), 45 PTC2/ADC0_SE4b/CMP1_IN/SPI0_PCS2/UART1_CTS_b/FTM0_CH1/LPUART0_CTS_b (io), 46 PTC3/LLWU_P7/CMP1_IN1/SPI0_PCS1/UART1_RX/FTM0_CH2/CLKOUT/LPUART0_RX (io), 47 VSS (power), 48 VDD (power), 49 PTC4/LLWU_P8/SPI0_PCS0/UART1_TX/FTM0_CH3/CMP1_OUT/LPUART0_TX (io), 50 PTC5/LLWU_P9/SPI0_SCK/LPTMR0_ALT2/CMP0_OUT/FTM0_CH2 (io), 51 PTC6/LLWU_P10/CMP0_IN0/SPI0_SOUT/PDB0_EXTRG/I2C0_SCL (io), 52 PTC7/CMP0_IN1/SPI0_SIN/I2C0_SDA (io), 53 PTC8/ADC1_SE4b/CMP0_IN2 (io), 54 PTC9/ADC1_SE5b/CMP0_IN3/FTM2_FLT0 (io), 55 PTC10/ADC1_SE6b/I2C1_SCL (io), 56 PTC11/LLWU_P11/ADC1_SE7b/I2C1_SDA (io), 57 PTD0/LLWU_P12/SPI0_PCS0/UART2_RTS_b/FTM0_CH0/LPUART0_RTS_b (io), 58 PTD1/ADC0_SE5b/SPI0_SCK/UART2_CTS_b/FTM0_CH1/LPUART0_CTS_b (io), 59 PTD2/LLWU_P13/SPI0_SOUT/UART2_RX/FTM0_CH2/LPUART0_RX/I2C0_SCL (io), 60 PTD3/SPIN0_SIN/UART2_TX/FTM0_CH3/LPUART0_TX/I2C0_SDA (io), 61 PTD4/LLWU_P14/SPI0_PCS1/UART0_RTS_b/FTM0_CH4/EWM_IN/SPI1_PCS0 (io), 62 PTD5/ADC0_SE6b/API0_PCS2/UART0_CTS_b/FTM_CH/EWM_OUT_b/SPI1_SCK (io), 63 PTD6/LLWU_P15/ADC0_SE7b/SPI0_PCS3/UART0_RX/FTM0_CH6/FTM0_FLT0/SPI1_SOUT (io), 64 PTD7/UART0_TX/FTM0_CH7/FTM0_FLT1/SPI1_SIN (io)